# Altium schematic symbol library NSC Audio.SchLib: 306 symbols (part 1 of 8)
Pins are listed as number, name and electrical type; pins without a type are passive.

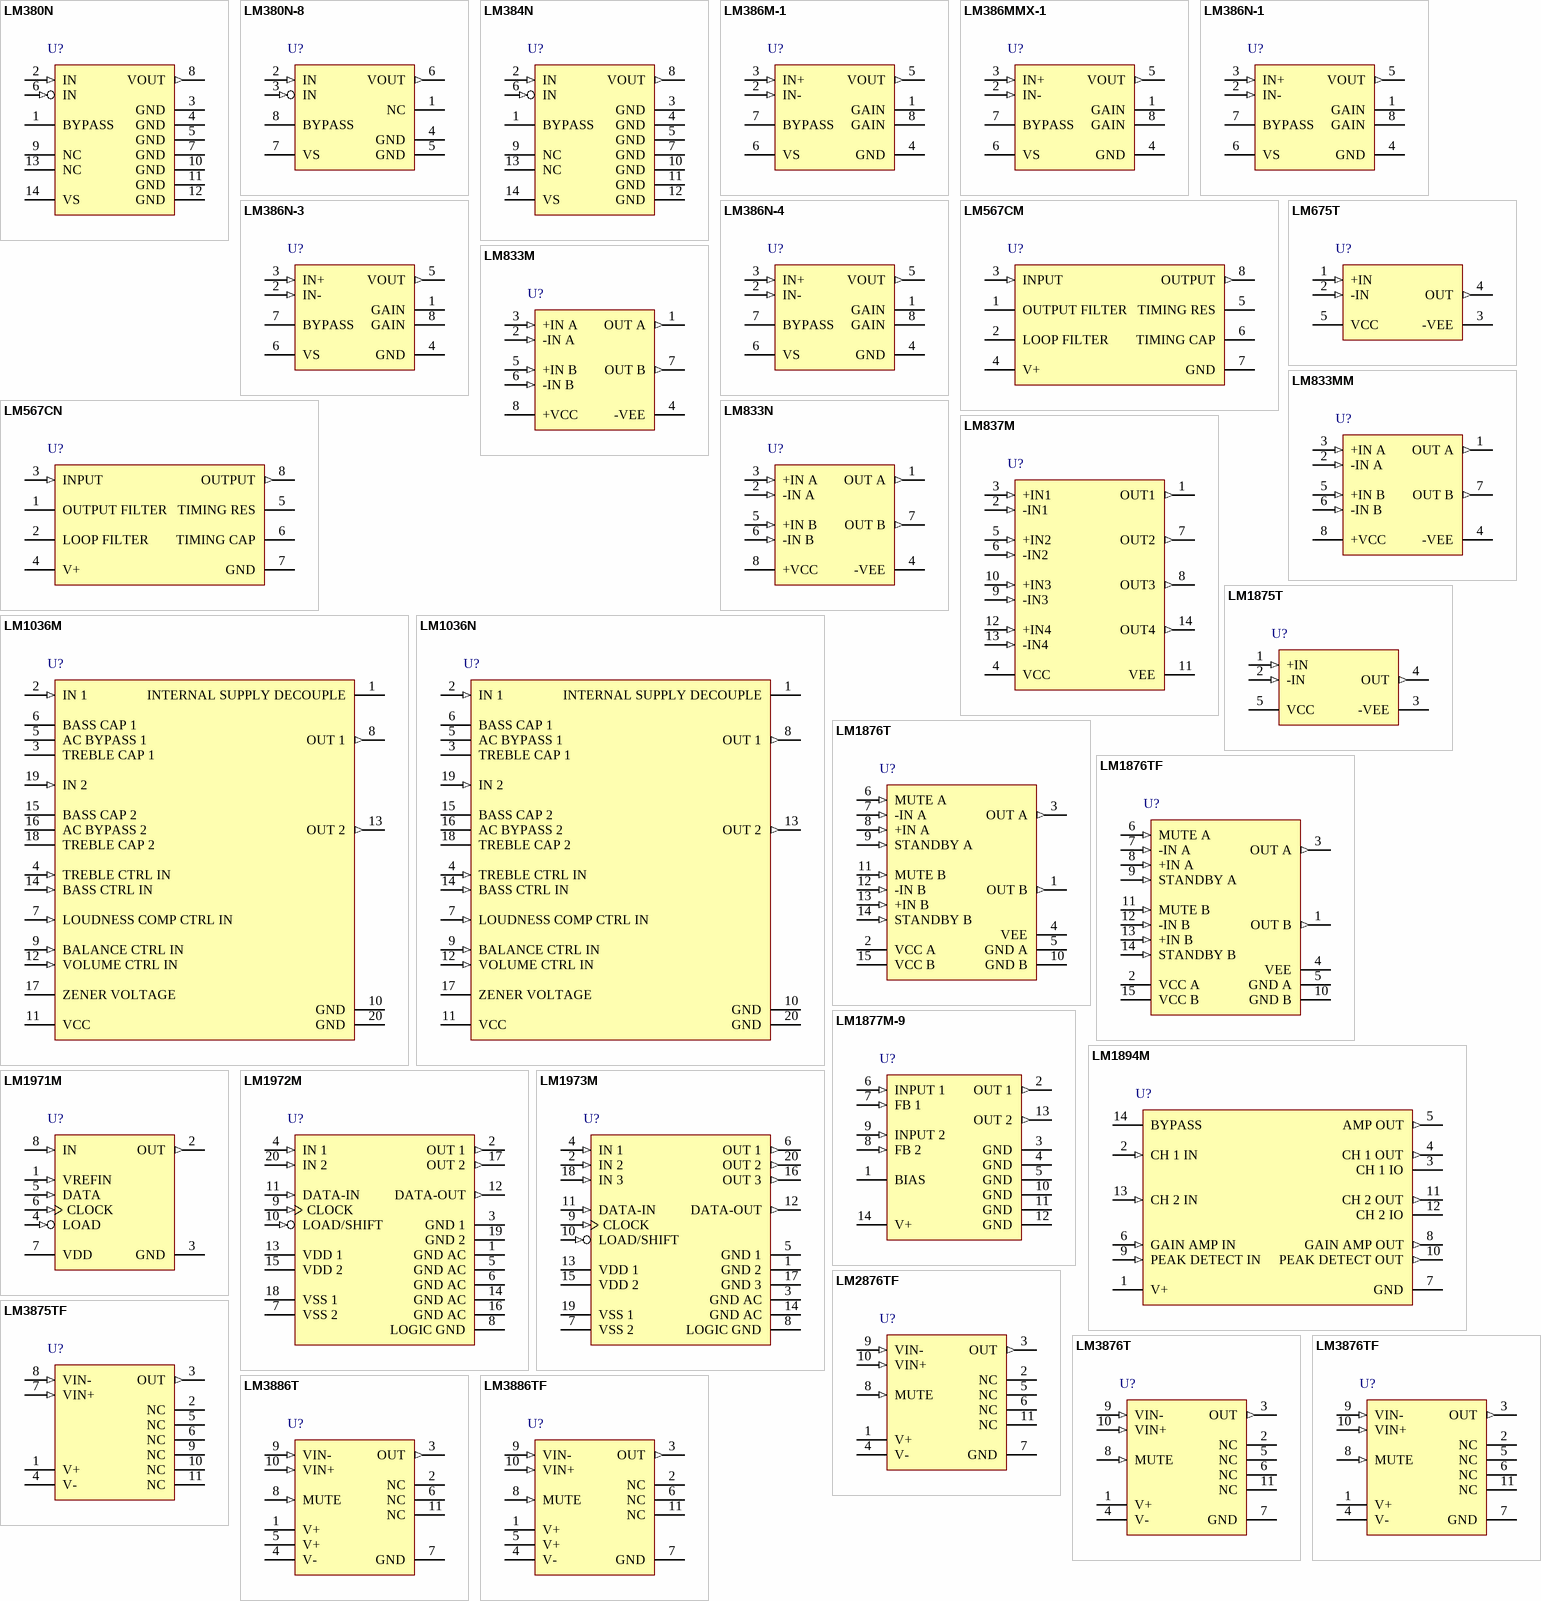
[diagram p0: symbols LM380N to LM3886TF]

## LM380N
designator U?
2.5W Audio Power Amplifier; PartNumber: LM380N; Manufacturer: National Semiconductor; CompType: Audio IC; PackageTopMarking: NSUZXYYTTE#*LM380N; PowerWise: N; Published: 4-Dec-2008; DatasheetVersion: Aug-2000; PackageVersion: revG, May-2006; PackageReference: N14A; Publisher: Altium Limited; PackageDescription: MDIP, .750 x .250 x.130in, 14 Lead, .100in Pitch; RoHS: O; PinCount: 14; DigiKeyPartNumber: LM380N-ND; Code_JEDEC: MS-001-AA; ComponentLink1Description: LM380 Datasheet; ComponentLink1URL: http://www.national.com/ds/LM/LM380.pdf; ComponentLink2Description: LM380 Web Page; ComponentLink2URL: http://www.national.com/pf/LM/LM380.html; ComponentLink3Description: N14A Package Page; ComponentLink3URL: http://www.national.com/packaging/folders/n14a.html
footprint N14A (DIP, 14-Leads, Row Spacing 7.62mm, Pitch 2.54mm, Body 19.56x6.35mm)
pins: 1 BYPASS, 2 IN (in), 3 GND (power), 4 GND (power), 5 GND (power), 6 IN (in), 7 GND (power), 8 VOUT (out), 9 NC, 10 GND (power), 11 GND (power), 12 GND (power), 13 NC, 14 VS (power)

## LM380N-8
designator U?
2.5W Audio Power Amplifier; PartNumber: LM380N-8; Manufacturer: National Semiconductor; CompType: Audio IC; PackageTopMarking: NSUZXYTT*LM*380N-8; PowerWise: N; Published: 4-Dec-2008; DatasheetVersion: Aug-2000; PackageVersion: revG, May-2006; PackageReference: N08E; Publisher: Altium Limited; PackageDescription: MDIP, .365 x .250 x .130in, 8 Lead, .100in Pitch; RoHS: Y; PinCount: 8; DigiKeyPartNumber: LM380N-8-ND; Code_JEDEC: MS-001-BA; ComponentLink1Description: LM380 Datasheet; ComponentLink1URL: http://www.national.com/ds/LM/LM380.pdf; ComponentLink2Description: LM380 Web Page; ComponentLink2URL: http://www.national.com/pf/LM/LM380.html; ComponentLink3Description: N08E Package Page; ComponentLink3URL: http://www.national.com/packaging/folders/n08e.html
footprint N08E (DIP, 8-Leads, Row Spacing 7.62mm, Pitch 2.54mm, Body 9.91x6.35mm)
pins: 1 NC, 2 IN (in), 3 IN (in), 4 GND (power), 5 GND (power), 6 VOUT (out), 7 VS (power), 8 BYPASS

## LM384N
designator U?
5-W Audio Power Amplifier; PartNumber: LM384N; Manufacturer: National Semiconductor; CompType: Audio IC; PackageTopMarking: NSUZXYYTTE#*LM384N; PowerWise: N; Published: 4-Dec-2008; DatasheetVersion: Aug-2000; PackageVersion: revG, May-2006; PackageReference: N14A; Publisher: Altium Limited; PackageDescription: MDIP, .750 x .250 x.130in, 14 Lead, .100in Pitch; RoHS: O; PinCount: 14; DigiKeyPartNumber: LM384N-ND; Code_JEDEC: MS-001-AA; ComponentLink1Description: LM384 Datasheet; ComponentLink1URL: http://www.national.com/ds/LM/LM384.pdf; ComponentLink2Description: LM384 Web Page; ComponentLink2URL: http://www.national.com/pf/LM/LM384.html; ComponentLink3Description: N14A Package Page; ComponentLink3URL: http://www.national.com/packaging/folders/n14a.html
footprint N14A (DIP, 14-Leads, Row Spacing 7.62mm, Pitch 2.54mm, Body 19.56x6.35mm)
pins: 1 BYPASS, 2 IN (in), 3 GND (power), 4 GND (power), 5 GND (power), 6 IN (in), 7 GND (power), 8 VOUT (out), 9 NC, 10 GND (power), 11 GND (power), 12 GND (power), 13 NC, 14 VS (power)

## LM386M-1
designator U?
Low Voltage Audio Power Amplifier; PartNumber: LM386M-1; Manufacturer: National Semiconductor; CompType: Audio IC; PackageTopMarking: NSZXTT*LM386*M-1; PowerWise: N; Published: 4-Dec-2008; DatasheetVersion: Aug-2000; PackageVersion: revL, Sep-2006; PackageReference: M08A; Publisher: Altium Limited; PackageDescription: SOIC Narrow, 4.9 x 3.9 x 1.45mm, 8 Lead, 1.27mm Pitch; RoHS: O; PinCount: 8; DigiKeyPartNumber: LM386M-1-ND; Code_JEDEC: MS-012-AA; Code_IPC: SOIC127P600-8; ComponentLink1Description: LM386 Datasheet; ComponentLink1URL: http://www.national.com/ds/LM/LM386.pdf; ComponentLink2Description: LM386 Web Page; ComponentLink2URL: http://www.national.com/pf/LM/LM386.html; ComponentLink3Description: M08A Package Page; ComponentLink3URL: http://www.national.com/packaging/folders/m08a.html
footprint M08A_N (SOIC, 8-Leads, Body 4.9x3.9mm, Pitch 1.27mm, IPC Medium Density)
footprint M08A_L (SOIC, 8-Leads, Body 4.9x3.9mm, Pitch 1.27mm, IPC High Density)
footprint M08A_M (SOIC, 8-Leads, Body 4.9x3.9mm, Pitch 1.27mm, IPC Low Density)
pins: 1 GAIN, 2 IN- (in), 3 IN+ (in), 4 GND (power), 5 VOUT (out), 6 VS (power), 7 BYPASS, 8 GAIN

## LM386MMX-1
designator U?
Low Voltage Audio Power Amplifier; PartNumber: LM386MMX-1; Manufacturer: National Semiconductor; CompType: Audio IC; PackageTopMarking: ZXTT*Z86; PowerWise: N; Published: 4-Dec-2008; DatasheetVersion: Aug-2000; PackageVersion: revF, Apr-2008; PackageReference: MUA08A; Publisher: Altium Limited; PackageDescription: MINI SOIC, .118 x .118 x .034in, 8 Lead, .0256in Pitch; RoHS: Y; PinCount: 8; DigiKeyPartNumber: LM386MMX-1-ND; Code_JEDEC: MO-187-AA; ComponentLink1Description: LM386 Datasheet; ComponentLink1URL: http://www.national.com/ds/LM/LM386.pdf; ComponentLink2Description: LM386 Web Page; ComponentLink2URL: http://www.national.com/pf/LM/LM386.html; ComponentLink3Description: MUA08A Package Page; ComponentLink3URL: http://www.national.com/packaging/folders/mua08a.html
footprint MUA08A_N (TSOP, 8-Leads, Body 3x3mm, Pitch 0.65mm, IPC Medium Density)
footprint MUA08A_L (TSOP, 8-Leads, Body 3x3mm, Pitch 0.65mm, IPC High Density)
footprint MUA08A_M (TSOP, 8-Leads, Body 3x3mm, Pitch 0.65mm, IPC Low Density)
pins: 1 GAIN, 2 IN- (in), 3 IN+ (in), 4 GND (power), 5 VOUT (out), 6 VS (power), 7 BYPASS, 8 GAIN

## LM386N-1
designator U?
Low Voltage Audio Power Amplifier; PartNumber: LM386N-1; Manufacturer: National Semiconductor; CompType: Audio IC; PackageTopMarking: NSUZXYTT*LM*386N-1; PowerWise: N; Published: 4-Dec-2008; DatasheetVersion: Aug-2000; PackageVersion: revG, May-2006; PackageReference: N08E; Publisher: Altium Limited; PackageDescription: MDIP, .365 x .250 x .130in, 8 Lead, .100in Pitch; RoHS: O; PinCount: 8; DigiKeyPartNumber: LM386N-1-ND; Code_JEDEC: MS-001-BA; ComponentLink1Description: LM386 Datasheet; ComponentLink1URL: http://www.national.com/ds/LM/LM386.pdf; ComponentLink2Description: LM386 Web Page; ComponentLink2URL: http://www.national.com/pf/LM/LM386.html; ComponentLink3Description: N08E Package Page; ComponentLink3URL: http://www.national.com/packaging/folders/n08e.html
footprint N08E (DIP, 8-Leads, Row Spacing 7.62mm, Pitch 2.54mm, Body 9.91x6.35mm)
pins: 1 GAIN, 2 IN- (in), 3 IN+ (in), 4 GND (power), 5 VOUT (out), 6 VS (power), 7 BYPASS, 8 GAIN

## LM386N-3
designator U?
Low Voltage Audio Power Amplifier; PartNumber: LM386N-3; Manufacturer: National Semiconductor; CompType: Audio IC; PackageTopMarking: NSUZXYTT*LM*386N-3; PowerWise: N; Published: 4-Dec-2008; DatasheetVersion: Aug-2000; PackageVersion: revG, May-2006; PackageReference: N08E; Publisher: Altium Limited; PackageDescription: MDIP, .365 x .250 x .130in, 8 Lead, .100in Pitch; RoHS: O; PinCount: 8; DigiKeyPartNumber: LM386N-3-ND; Code_JEDEC: MS-001-BA; ComponentLink1Description: LM386 Datasheet; ComponentLink1URL: http://www.national.com/ds/LM/LM386.pdf; ComponentLink2Description: LM386 Web Page; ComponentLink2URL: http://www.national.com/pf/LM/LM386.html; ComponentLink3Description: N08E Package Page; ComponentLink3URL: http://www.national.com/packaging/folders/n08e.html
footprint N08E (DIP, 8-Leads, Row Spacing 7.62mm, Pitch 2.54mm, Body 9.91x6.35mm)
pins: 1 GAIN, 2 IN- (in), 3 IN+ (in), 4 GND (power), 5 VOUT (out), 6 VS (power), 7 BYPASS, 8 GAIN

## LM386N-4
designator U?
Low Voltage Audio Power Amplifier; PartNumber: LM386N-4; Manufacturer: National Semiconductor; CompType: Audio IC; PackageTopMarking: NSUZXYTT*LM*386N-4; PowerWise: N; Published: 4-Dec-2008; DatasheetVersion: Aug-2000; PackageVersion: revG, May-2006; PackageReference: N08E; Publisher: Altium Limited; PackageDescription: MDIP, .365 x .250 x .130in, 8 Lead, .100in Pitch; RoHS: O; PinCount: 8; DigiKeyPartNumber: LM386N-4-ND; Code_JEDEC: MS-001-BA; ComponentLink1Description: LM386 Datasheet; ComponentLink1URL: http://www.national.com/ds/LM/LM386.pdf; ComponentLink2Description: LM386 Web Page; ComponentLink2URL: http://www.national.com/pf/LM/LM386.html; ComponentLink3Description: N08E Package Page; ComponentLink3URL: http://www.national.com/packaging/folders/n08e.html
footprint N08E (DIP, 8-Leads, Row Spacing 7.62mm, Pitch 2.54mm, Body 9.91x6.35mm)
pins: 1 GAIN, 2 IN- (in), 3 IN+ (in), 4 GND (power), 5 VOUT (out), 6 VS (power), 7 BYPASS, 8 GAIN

## LM567CM
designator U?
Tone Decoder; PartNumber: LM567CM; Manufacturer: National Semiconductor; CompType: Audio IC; PackageTopMarking: NSZXTT*LM*567CM; PowerWise: N; Published: 4-Dec-2008; DatasheetVersion: Feb-2003; PackageVersion: revL, Sep-2006; PackageReference: M08A; Publisher: Altium Limited; PackageDescription: SOIC Narrow, 4.9 x 3.9 x 1.45mm, 8 Lead, 1.27mm Pitch; RoHS: O; PinCount: 8; DigiKeyPartNumber: LM567CM-ND; Code_JEDEC: MS-012-AA; Code_IPC: SOIC127P600-8; ComponentLink1Description: LM567C Datasheet; ComponentLink1URL: http://www.national.com/ds/LM/LM567C.pdf; ComponentLink2Description: LM567C Web Page; ComponentLink2URL: http://www.national.com/pf/LM/LM567C.html; ComponentLink3Description: M08A Package Page; ComponentLink3URL: http://www.national.com/packaging/folders/m08a.html
footprint M08A_N (SOIC, 8-Leads, Body 4.9x3.9mm, Pitch 1.27mm, IPC Medium Density)
footprint M08A_L (SOIC, 8-Leads, Body 4.9x3.9mm, Pitch 1.27mm, IPC High Density)
footprint M08A_M (SOIC, 8-Leads, Body 4.9x3.9mm, Pitch 1.27mm, IPC Low Density)
pins: 1 OUTPUT FILTER, 2 LOOP FILTER, 3 INPUT (in), 4 V+ (power), 5 TIMING RES, 6 TIMING CAP, 7 GND (power), 8 OUTPUT (out)

## LM567CN
designator U?
Tone Decoder; PartNumber: LM567CN; Manufacturer: National Semiconductor; CompType: Audio IC; PackageTopMarking: NSUZXYTT*LM*567CN; PowerWise: N; Published: 4-Dec-2008; DatasheetVersion: Feb-2003; PackageVersion: revG, May-2006; PackageReference: N08E; Publisher: Altium Limited; PackageDescription: MDIP, .365 x .250 x .130in, 8 Lead, .100in Pitch; RoHS: O; PinCount: 8; DigiKeyPartNumber: LM567CN-ND; Code_JEDEC: MS-001-BA; ComponentLink1Description: LM567C Datasheet; ComponentLink1URL: http://www.national.com/ds/LM/LM567C.pdf; ComponentLink2Description: LM567C Web Page; ComponentLink2URL: http://www.national.com/pf/LM/LM567C.html; ComponentLink3Description: N08E Package Page; ComponentLink3URL: http://www.national.com/packaging/folders/n08e.html
footprint N08E (DIP, 8-Leads, Row Spacing 7.62mm, Pitch 2.54mm, Body 9.91x6.35mm)
pins: 1 OUTPUT FILTER, 2 LOOP FILTER, 3 INPUT (in), 4 V+ (power), 5 TIMING RES, 6 TIMING CAP, 7 GND (power), 8 OUTPUT (out)

## LM675T
designator U?
Power Operational Amplifier; PartNumber: LM675T; Manufacturer: National Semiconductor; CompType: Audio IC; PackageTopMarking: NSUZXYTTE#*LM675T; PowerWise: N; Published: 4-Dec-2008; DatasheetVersion: May-1999; PackageVersion: revA, Oct-1989; PackageReference: T05D; Publisher: Altium Limited; PackageDescription: TO-220, Molded, Stagger Bend, 5 Lead; RoHS: O; PinCount: 5; DigiKeyPartNumber: LM675T-ND; ComponentLink1Description: LM675 Datasheet; ComponentLink1URL: http://www.national.com/ds/LM/LM675.pdf; ComponentLink2Description: LM675 Web Page; ComponentLink2URL: http://www.national.com/pf/LM/LM675.html; ComponentLink3Description: T05D Package Page; ComponentLink3URL: http://www.national.com/packaging/folders/t05d.html
footprint T05D (TO, Thru-Hole, Vertical, Heatsink Mounted; 5 Bent Staggered Leads; Pitch 1.7 mm)
pins: 1 +IN (in), 2 -IN (in), 3 -VEE (power), 4 OUT (out), 5 VCC (power)

## LM833M
designator U?
Dual Audio Operational Amplifier; PartNumber: LM833M; Manufacturer: National Semiconductor; CompType: Audio IC; PackageTopMarking: NSZXTT*LM833*M; PowerWise: N; Published: 4-Dec-2008; DatasheetVersion: Jan-2003; PackageVersion: revL, Sep-2006; PackageReference: M08A; Publisher: Altium Limited; PackageDescription: SOIC Narrow, 4.9 x 3.9 x 1.45mm, 8 Lead, 1.27mm Pitch; RoHS: O; PinCount: 8; DigiKeyPartNumber: LM833M-ND; Code_JEDEC: MS-012-AA; Code_IPC: SOIC127P600-8; ComponentLink1Description: LM833 Datasheet; ComponentLink1URL: http://www.national.com/ds/LM/LM833.pdf; ComponentLink2Description: LM833 Web Page; ComponentLink2URL: http://www.national.com/pf/LM/LM833.html; ComponentLink3Description: M08A Package Page; ComponentLink3URL: http://www.national.com/packaging/folders/m08a.html
footprint M08A_N (SOIC, 8-Leads, Body 4.9x3.9mm, Pitch 1.27mm, IPC Medium Density)
footprint M08A_L (SOIC, 8-Leads, Body 4.9x3.9mm, Pitch 1.27mm, IPC High Density)
footprint M08A_M (SOIC, 8-Leads, Body 4.9x3.9mm, Pitch 1.27mm, IPC Low Density)
pins: 1 OUT A (out), 2 -IN A (in), 3 +IN A (in), 4 -VEE (power), 5 +IN B (in), 6 -IN B (in), 7 OUT B (out), 8 +VCC (power)

## LM833MM
designator U?
Dual Audio Operational Amplifier; PartNumber: LM833MM; Manufacturer: National Semiconductor; CompType: Audio IC; PackageTopMarking: ZXTT*Z83; PowerWise: N; Published: 4-Dec-2008; DatasheetVersion: Jan-2003; PackageVersion: revF, Apr-2008; PackageReference: MUA08A; Publisher: Altium Limited; PackageDescription: MINI SOIC, .118 x .118 x .034in, 8 Lead, .0256in Pitch; RoHS: O; PinCount: 8; DigiKeyPartNumber: LM833MMCT-ND; Code_JEDEC: MO-187-AA; ComponentLink1Description: LM833 Datasheet; ComponentLink1URL: http://www.national.com/ds/LM/LM833.pdf; ComponentLink2Description: LM833 Web Page; ComponentLink2URL: http://www.national.com/pf/LM/LM833.html; ComponentLink3Description: MUA08A Package Page; ComponentLink3URL: http://www.national.com/packaging/folders/mua08a.html
footprint MUA08A_N (TSOP, 8-Leads, Body 3x3mm, Pitch 0.65mm, IPC Medium Density)
footprint MUA08A_L (TSOP, 8-Leads, Body 3x3mm, Pitch 0.65mm, IPC High Density)
footprint MUA08A_M (TSOP, 8-Leads, Body 3x3mm, Pitch 0.65mm, IPC Low Density)
pins: 1 OUT A (out), 2 -IN A (in), 3 +IN A (in), 4 -VEE (power), 5 +IN B (in), 6 -IN B (in), 7 OUT B (out), 8 +VCC (power)

## LM833N
designator U?
Dual Audio Operational Amplifier; PartNumber: LM833N; Manufacturer: National Semiconductor; CompType: Audio IC; PackageTopMarking: NSUZXYTT*LM*833N; PowerWise: N; Published: 4-Dec-2008; DatasheetVersion: Jan-2003; PackageVersion: revG, May-2006; PackageReference: N08E; Publisher: Altium Limited; PackageDescription: MDIP, .365 x .250 x .130in, 8 Lead, .100in Pitch; RoHS: O; PinCount: 8; DigiKeyPartNumber: LM833NNS-ND; Code_JEDEC: MS-001-BA; ComponentLink1Description: LM833 Datasheet; ComponentLink1URL: http://www.national.com/ds/LM/LM833.pdf; ComponentLink2Description: LM833 Web Page; ComponentLink2URL: http://www.national.com/pf/LM/LM833.html; ComponentLink3Description: N08E Package Page; ComponentLink3URL: http://www.national.com/packaging/folders/n08e.html
footprint N08E (DIP, 8-Leads, Row Spacing 7.62mm, Pitch 2.54mm, Body 9.91x6.35mm)
pins: 1 OUT A (out), 2 -IN A (in), 3 +IN A (in), 4 -VEE (power), 5 +IN B (in), 6 -IN B (in), 7 OUT B (out), 8 +VCC (power)

## LM837M
designator U?
Low Noise Quad Operational Amplifier; PartNumber: LM837M; Manufacturer: National Semiconductor; CompType: Audio IC; PackageTopMarking: NSUZXYTT*LM837M; PowerWise: Y; Published: 4-Dec-2008; DatasheetVersion: Aug-2000; PackageVersion: revJ, Jan-1996; PackageReference: M14A; Publisher: Altium Limited; PackageDescription: Molded Package S.O., .150in Wide, 14 Lead; RoHS: O; PinCount: 14; DigiKeyPartNumber: LM837M-ND; Code_JEDEC: MS-012AB; Code_IPC: SOIC127P600-14; ComponentLink1Description: LM837 Datasheet; ComponentLink1URL: http://www.national.com/ds/LM/LM837.pdf; ComponentLink2Description: LM837 Web Page; ComponentLink2URL: http://www.national.com/pf/LM/LM837.html; ComponentLink3Description: M14A Package Page; ComponentLink3URL: http://www.national.com/packaging/folders/m14a.html
footprint M14A_N (SOIC, 14-Leads, Body 8.6x3.9mm, Pitch 1.27mm, IPC Medium Density)
footprint M14A_L (SOIC, 14-Leads, Body 8.6x3.9mm, Pitch 1.27mm, IPC High Density)
footprint M14A_M (SOIC, 14-Leads, Body 8.6x3.9mm, Pitch 1.27mm, IPC Low Density)
pins: 1 OUT1 (out), 2 -IN1 (in), 3 +IN1 (in), 4 VCC (power), 5 +IN2 (in), 6 -IN2 (in), 7 OUT2 (out), 8 OUT3 (out), 9 -IN3 (in), 10 +IN3 (in), 11 VEE (power), 12 +IN4 (in), 13 -IN4 (in), 14 OUT4 (out)

## LM1036M
designator U?
Dual DC Operated Tone/Volume/Balance Circuit; PartNumber: LM1036M; Manufacturer: National Semiconductor; CompType: Audio IC; PackageTopMarking: NSUZXYTT*LM1036M; PowerWise: N; Published: 4-Dec-2008; DatasheetVersion: Feb-2008; PackageVersion: revG, Jan-1996; PackageReference: M20B; Publisher: Altium Limited; PackageDescription: Molded Package, S0, .300in Wide, 20 Lead; RoHS: O; PinCount: 20; DigiKeyPartNumber: LM1036M-ND; Code_JEDEC: MS-013-AC; Code_IPC: SOIC127P1030-20; ComponentLink1Description: LM1036 Datasheet; ComponentLink1URL: http://www.national.com/ds/LM/LM1036.pdf; ComponentLink2Description: LM1036 Web Page; ComponentLink2URL: http://www.national.com/pf/LM/LM1036.html; ComponentLink3Description: M20B Package Page; ComponentLink3URL: http://www.national.com/packaging/folders/m20b.html
footprint M20B_N (SOIC, 20-Leads, Body 12.8x7.5mm, Pitch 1.27mm, IPC Medium Density)
footprint M20B_L (SOIC, 20-Leads, Body 12.8x7.5mm, Pitch 1.27mm, IPC High Density)
footprint M20B_M (SOIC, 20-Leads, Body 12.8x7.5mm, Pitch 1.27mm, IPC Low Density)
pins: 1 INTERNAL SUPPLY DECOUPLE, 2 IN 1 (in), 3 TREBLE CAP 1, 4 TREBLE CTRL IN (in), 5 AC BYPASS 1, 6 BASS CAP 1, 7 LOUDNESS COMP CTRL IN (in), 8 OUT 1 (out), 9 BALANCE CTRL IN (in), 10 GND (power), 11 VCC (power), 12 VOLUME CTRL IN (in), 13 OUT 2 (out), 14 BASS CTRL IN (in), 15 BASS CAP 2, 16 AC BYPASS 2, 17 ZENER VOLTAGE, 18 TREBLE CAP 2, 19 IN 2 (in), 20 GND (power)

## LM1036N
designator U?
Dual DC Operated Tone/Volume/Balance Circuit; PartNumber: LM1036N; Manufacturer: National Semiconductor; CompType: Audio IC; PackageTopMarking: NSUZXYYTTE#*LM1036N; PowerWise: N; Published: 4-Dec-2008; DatasheetVersion: Feb-2008; PackageVersion: revG, Nov-1984; PackageReference: N20A; Publisher: Altium Limited; PackageDescription: Molded Dip (N) 20 Lead; RoHS: O; PinCount: 20; DigiKeyPartNumber: LM1036N-ND; Code_JEDEC: MS-001-AD; ComponentLink1Description: LM1036 Datasheet; ComponentLink1URL: http://www.national.com/ds/LM/LM1036.pdf; ComponentLink2Description: LM1036 Web Page; ComponentLink2URL: http://www.national.com/pf/LM/LM1036.html; ComponentLink3Description: N20A Package Page; ComponentLink3URL: http://www.national.com/packaging/folders/n20a.html
footprint N20A (DIP, 20-Leads, Row Spacing 7.62mm, Pitch 2.54mm, Body 26.07x6.6mm)
pins: 1 INTERNAL SUPPLY DECOUPLE, 2 IN 1 (in), 3 TREBLE CAP 1, 4 TREBLE CTRL IN (in), 5 AC BYPASS 1, 6 BASS CAP 1, 7 LOUDNESS COMP CTRL IN (in), 8 OUT 1 (out), 9 BALANCE CTRL IN (in), 10 GND (power), 11 VCC (power), 12 VOLUME CTRL IN (in), 13 OUT 2 (out), 14 BASS CTRL IN (in), 15 BASS CAP 2, 16 AC BYPASS 2, 17 ZENER VOLTAGE, 18 TREBLE CAP 2, 19 IN 2 (in), 20 GND (power)

## LM1875T
designator U?
20-W Audio Power Amplifier; PartNumber: LM1875T; Manufacturer: National Semiconductor; CompType: Audio IC; PackageTopMarking: NSUZXYTTE#*LM1875T; PowerWise: N; Published: 4-Dec-2008; DatasheetVersion: Jul-2002; PackageVersion: revA, Oct-1989; PackageReference: T05D; Publisher: Altium Limited; PackageDescription: TO-220, Molded, Stagger Bend, 5 Lead; RoHS: O; PinCount: 5; DigiKeyPartNumber: LM1875T-ND; ComponentLink1Description: LM1875 Datasheet; ComponentLink1URL: http://www.national.com/ds/LM/LM1875.pdf; ComponentLink2Description: LM1875 Web Page; ComponentLink2URL: http://www.national.com/pf/LM/LM1875.html; ComponentLink3Description: T05D Package Page; ComponentLink3URL: http://www.national.com/packaging/folders/t05d.html
footprint T05D (TO, Thru-Hole, Vertical, Heatsink Mounted; 5 Bent Staggered Leads; Pitch 1.7 mm)
pins: 1 +IN (in), 2 -IN (in), 3 -VEE (power), 4 OUT (out), 5 VCC (power)

## LM1876T
designator U?
Overture Audio Power Amplifier Series Dual 20-Watt Audio Power Amplifier with Mute and Standby Modes; PartNumber: LM1876T; Manufacturer: National Semiconductor; CompType: Audio IC; PackageTopMarking: NSUZXYTTE#*LM1876T; PowerWise: N; Published: 4-Dec-2008; DatasheetVersion: Jul-2003; PackageVersion: revA, Nov-1985; PackageReference: TA15A; Publisher: Altium Limited; PackageDescription: TO-220, Molded, .788 x .421in Body, 15 Lead, .05in Pitch; RoHS: O; PinCount: 15; DigiKeyPartNumber: LM1876T-ND; ComponentLink1Description: LM1876 Datasheet; ComponentLink1URL: http://www.national.com/ds/LM/LM1876.pdf; ComponentLink2Description: LM1876 Web Page; ComponentLink2URL: http://www.national.com/pf/LM/LM1876.html; ComponentLink3Description: TA15A Package Page; ComponentLink3URL: http://www.national.com/packaging/folders/ta15a.html
footprint TA15A (TO, Thru-Hole, Vertical, Heatsink Mounted; 15 Bent Staggered Leads; Pitch 1.27 mm)
pins: 1 OUT B (out), 2 VCC A (power), 3 OUT A (out), 4 VEE (power), 5 GND A (power), 6 MUTE A (in), 7 -IN A (in), 8 +IN A (in), 9 STANDBY A (in), 10 GND B (power), 11 MUTE B (in), 12 -IN B (in), 13 +IN B (in), 14 STANDBY B (in), 15 VCC B (power)

## LM1876TF
designator U?
Overture Audio Power Amplifier Series Dual 20-Watt Audio Power Amplifier with Mute and Standby Modes; PartNumber: LM1876TF; Manufacturer: National Semiconductor; CompType: Audio IC; PackageTopMarking: NSUZXYTTE#*LM1876TF; PowerWise: N; Published: 4-Dec-2008; DatasheetVersion: Jul-2003; PackageVersion: revB, Feb-1994; PackageReference: TF15B; Publisher: Altium Limited; PackageDescription: TO-220, Molded, 15 Lead, Staggered, Isolated; RoHS: O; PinCount: 15; DigiKeyPartNumber: LM1876TF-ND; ComponentLink1Description: LM1876 Datasheet; ComponentLink1URL: http://www.national.com/ds/LM/LM1876.pdf; ComponentLink2Description: LM1876 Web Page; ComponentLink2URL: http://www.national.com/pf/LM/LM1876.html; ComponentLink3Description: TF15B Package Page; ComponentLink3URL: http://www.national.com/packaging/folders/tf15b.html
footprint TF15B (TO, Thru-Hole, Vertical, Heatsink Mounted; 15 Bent Staggered Leads; Pitch 1.27 mm)
pins: 1 OUT B (out), 2 VCC A (power), 3 OUT A (out), 4 VEE (power), 5 GND A (power), 6 MUTE A (in), 7 -IN A (in), 8 +IN A (in), 9 STANDBY A (in), 10 GND B (power), 11 MUTE B (in), 12 -IN B (in), 13 +IN B (in), 14 STANDBY B (in), 15 VCC B (power)

## LM1877M-9
designator U?
Dual Audio Power Amplifier; PartNumber: LM1877M-9; Manufacturer: National Semiconductor; CompType: Audio IC; PackageTopMarking: NSUZXYTT*LM1877M*-9; PowerWise: N; Published: 4-Dec-2008; DatasheetVersion: Feb-1995; PackageVersion: revD, Feb-1987; PackageReference: M14B; Publisher: Altium Limited; PackageDescription: Molded Package, S.O., .300in Wide, 14 Lead; RoHS: O; PinCount: 14; DigiKeyPartNumber: LM1877M-9-ND; Code_JEDEC: MS-013-AF; Code_IPC: SOIC127P1030-14; ComponentLink1Description: LM1877 Datasheet; ComponentLink1URL: http://www.national.com/ds/LM/LM1877.pdf; ComponentLink2Description: LM1877 Web Page; ComponentLink2URL: http://www.national.com/pf/LM/LM1877.html; ComponentLink3Description: M14B Package Page; ComponentLink3URL: http://www.national.com/packaging/folders/m14b.html
footprint M14B_N (SOIC, 14-Leads, Body 9x7.5mm, Pitch 1.27mm, IPC Medium Density)
footprint M14B_L (SOIC, 14-Leads, Body 9x7.5mm, Pitch 1.27mm, IPC High Density)
footprint M14B_M (SOIC, 14-Leads, Body 9x7.5mm, Pitch 1.27mm, IPC Low Density)
pins: 1 BIAS, 2 OUT 1 (out), 3 GND (power), 4 GND (power), 5 GND (power), 6 INPUT 1 (in), 7 FB 1 (in), 8 FB 2 (in), 9 INPUT 2 (in), 10 GND (power), 11 GND (power), 12 GND (power), 13 OUT 2 (out), 14 V+ (power)

## LM1894M
designator U?
Dynamic Noise Reduction System DNR; PartNumber: LM1894M; Manufacturer: National Semiconductor; CompType: Audio IC; PackageTopMarking: NSUZXYTT*LM1894M; Published: 4-Dec-2008; DatasheetVersion: Apr-2002; PackageVersion: revJ, Jan-1996; PackageReference: M14A; Publisher: Altium Limited; PackageDescription: Molded Package S.O., .150in Wide, 14 Lead; RoHS: Y; PinCount: 14; DigiKeyPartNumber: LM1894M-ND; Code_JEDEC: MS-012AB; Code_IPC: SOIC127P600-14; ComponentLink1Description: LM1894 Datasheet; ComponentLink1URL: http://www.national.com/ds/LM/LM1894.pdf; ComponentLink2Description: LM1894 Web Page; ComponentLink2URL: http://www.national.com/pf/LM/LM1894.html; ComponentLink3Description: M14A Package Page; ComponentLink3URL: http://www.national.com/packaging/folders/m14a.html
footprint M14A_N (SOIC, 14-Leads, Body 8.6x3.9mm, Pitch 1.27mm, IPC Medium Density)
footprint M14A_L (SOIC, 14-Leads, Body 8.6x3.9mm, Pitch 1.27mm, IPC High Density)
footprint M14A_M (SOIC, 14-Leads, Body 8.6x3.9mm, Pitch 1.27mm, IPC Low Density)
pins: 1 V+ (power), 2 CH 1 IN (in), 3 CH 1 IO, 4 CH 1 OUT (out), 5 AMP OUT (out), 6 GAIN AMP IN (in), 7 GND (power), 8 GAIN AMP OUT (out), 9 PEAK DETECT IN (in), 10 PEAK DETECT OUT (out), 11 CH 2 OUT (out), 12 CH 2 IO, 13 CH 2 IN (in), 14 BYPASS

## LM1971M
designator U?
Digitally Controlled 62 dB Audio Attenuator with/Mute; PartNumber: LM1971M; Manufacturer: National Semiconductor; CompType: Audio IC; PackageTopMarking: NSZXTT*LM19*71M; PowerWise: N; Published: 4-Dec-2008; DatasheetVersion: Sep-2002; PackageVersion: revL, Sep-2006; PackageReference: M08A; Publisher: Altium Limited; PackageDescription: SOIC Narrow, 4.9 x 3.9 x 1.45mm, 8 Lead, 1.27mm Pitch; RoHS: O; PinCount: 8; DigiKeyPartNumber: LM1971M-ND; Code_JEDEC: MS-012-AA; Code_IPC: SOIC127P600-8; ComponentLink1Description: LM1971 Datasheet; ComponentLink1URL: http://www.national.com/ds/LM/LM1971.pdf; ComponentLink2Description: LM1971 Web Page; ComponentLink2URL: http://www.national.com/pf/LM/LM1971.html; ComponentLink3Description: M08A Package Page; ComponentLink3URL: http://www.national.com/packaging/folders/m08a.html
footprint M08A_N (SOIC, 8-Leads, Body 4.9x3.9mm, Pitch 1.27mm, IPC Medium Density)
footprint M08A_L (SOIC, 8-Leads, Body 4.9x3.9mm, Pitch 1.27mm, IPC High Density)
footprint M08A_M (SOIC, 8-Leads, Body 4.9x3.9mm, Pitch 1.27mm, IPC Low Density)
pins: 1 VREFIN (in), 2 OUT (out), 3 GND (power), 4 LOAD (in), 5 DATA (in), 6 CLOCK (in), 7 VDD (power), 8 IN (in)

## LM1972M
designator U?
Micro-Pot 2-Channel 78 dB Audio Attenuator with Mute; PartNumber: LM1972M; Manufacturer: National Semiconductor; CompType: Audio IC; PackageTopMarking: NSUZXYTT*LM1972M; PowerWise: N; Published: 4-Dec-2008; DatasheetVersion: Nov-2006; PackageVersion: revG, Jan-1996; PackageReference: M20B; Publisher: Altium Limited; PackageDescription: Molded Package, S0, .300in Wide, 20 Lead; RoHS: O; PinCount: 20; DigiKeyPartNumber: LM1972M-ND; Code_JEDEC: MS-013-AC; Code_IPC: SOIC127P1030-20; ComponentLink1Description: LM1972 Datasheet; ComponentLink1URL: http://www.national.com/ds/LM/LM1972.pdf; ComponentLink2Description: LM1972 Web Page; ComponentLink2URL: http://www.national.com/pf/LM/LM1972.html; ComponentLink3Description: M20B Package Page; ComponentLink3URL: http://www.national.com/packaging/folders/m20b.html
footprint M20B_N (SOIC, 20-Leads, Body 12.8x7.5mm, Pitch 1.27mm, IPC Medium Density)
footprint M20B_L (SOIC, 20-Leads, Body 12.8x7.5mm, Pitch 1.27mm, IPC High Density)
footprint M20B_M (SOIC, 20-Leads, Body 12.8x7.5mm, Pitch 1.27mm, IPC Low Density)
pins: 1 GND AC (power), 2 OUT 1 (out), 3 GND 1 (power), 4 IN 1 (in), 5 GND AC (power), 6 GND AC (power), 7 VSS 2 (power), 8 LOGIC GND (power), 9 CLOCK (in), 10 LOAD/SHIFT (in), 11 DATA-IN (in), 12 DATA-OUT (out), 13 VDD 1 (power), 14 GND AC (power), 15 VDD 2 (power), 16 GND AC (power), 17 OUT 2 (out), 18 VSS 1 (power), 19 GND 2 (power), 20 IN 2 (in)

## LM1973M
designator U?
Micro-Pot 3-Channel 76 dB Audio Attenuator with Mute; PartNumber: LM1973M; Manufacturer: National Semiconductor; CompType: Audio IC; PackageTopMarking: NSUZXYTT*LM1973M; PowerWise: N; Published: 4-Dec-2008; DatasheetVersion: Dec-1994; PackageVersion: revG, Jan-1996; PackageReference: M20B; Publisher: Altium Limited; PackageDescription: Molded Package, S0, .300in Wide, 20 Lead; RoHS: Y; PinCount: 20; DigiKeyPartNumber: LM1973M-ND; Code_JEDEC: MS-013-AC; Code_IPC: SOIC127P1030-20; ComponentLink1Description: LM1973 Datasheet; ComponentLink1URL: http://www.national.com/ds/LM/LM1973.pdf; ComponentLink2Description: LM1973 Web Page; ComponentLink2URL: http://www.national.com/pf/LM/LM1973.html; ComponentLink3Description: M20B Package Page; ComponentLink3URL: http://www.national.com/packaging/folders/m20b.html
footprint M20B_N (SOIC, 20-Leads, Body 12.8x7.5mm, Pitch 1.27mm, IPC Medium Density)
footprint M20B_L (SOIC, 20-Leads, Body 12.8x7.5mm, Pitch 1.27mm, IPC High Density)
footprint M20B_M (SOIC, 20-Leads, Body 12.8x7.5mm, Pitch 1.27mm, IPC Low Density)
pins: 1 GND 2 (power), 2 IN 2 (in), 3 GND AC (power), 4 IN 1 (in), 5 GND 1 (power), 6 OUT 1 (out), 7 VSS 2 (power), 8 LOGIC GND (power), 9 CLOCK (in), 10 LOAD/SHIFT (in), 11 DATA-IN (in), 12 DATA-OUT (out), 13 VDD 1 (power), 14 GND AC (power), 15 VDD 2 (power), 16 OUT 3 (out), 17 GND 3 (power), 18 IN 3 (in), 19 VSS 1 (power), 20 OUT 2 (out)

## LM2876TF
designator U?
High-Performance 40 Watt Audio Power Amplifier w/Mute; PartNumber: LM2876TF; Manufacturer: National Semiconductor; CompType: Audio IC; PackageTopMarking: NSUZXYTTE#*LM2876TF; PowerWise: N; Published: 4-Dec-2008; DatasheetVersion: Aug-2000; PackageVersion: revD, Apr-2003; PackageReference: TF11B; Publisher: Altium Limited; PackageDescription: TO-220, Molded, 15 Lead, Staggered, Isolated; RoHS: Y; PinCount: 11; DigiKeyPartNumber: LM2876TF-ND; ComponentLink1Description: LM2876 Datasheet; ComponentLink1URL: http://www.national.com/ds/LM/LM2876.pdf; ComponentLink2Description: LM2876 Web Page; ComponentLink2URL: http://www.national.com/pf/LM/LM2876.html; ComponentLink3Description: TF11B Package Page; ComponentLink3URL: http://www.national.com/packaging/folders/tf11b.html
footprint TF11B (TO, Thru-Hole, Vertical, Heatsink Mounted; 11 Bent Staggered Leads; Pitch 1.7 mm)
pins: 1 V+ (power), 2 NC, 3 OUT (out), 4 V- (power), 5 NC "NC. Connect to V+ for compatibillity with LM3886", 6 NC, 7 GND (power), 8 MUTE (in), 9 VIN- (in), 10 VIN+ (in), 11 NC

## LM3875TF
designator U?
High-Performance 56W Audio Power Amplifier; PartNumber: LM3875TF; Manufacturer: National Semiconductor; CompType: Audio IC; PackageTopMarking: NSUZXYTTE#*LM3875TF; PowerWise: N; Published: 4-Dec-2008; DatasheetVersion: Aug-2000; PackageVersion: revD, Apr-2003; PackageReference: TF11B; Publisher: Altium Limited; PackageDescription: TO-220, Molded, 15 Lead, Staggered, Isolated; RoHS: Y; PinCount: 11; DigiKeyPartNumber: LM3875TF-ND; ComponentLink1Description: LM3875 Datasheet; ComponentLink1URL: http://www.national.com/ds/LM/LM3875.pdf; ComponentLink2Description: LM3875 Web Page; ComponentLink2URL: http://www.national.com/pf/LM/LM3875.html; ComponentLink3Description: TF11B Package Page; ComponentLink3URL: http://www.national.com/packaging/folders/tf11b.html
footprint TF11B (TO, Thru-Hole, Vertical, Heatsink Mounted; 11 Bent Staggered Leads; Pitch 1.7 mm)
pins: 1 V+ (power), 2 NC, 3 OUT (out), 4 V- (power), 5 NC, 6 NC, 7 VIN+ (in), 8 VIN- (in), 9 NC, 10 NC, 11 NC

## LM3876T
designator U?
High-Performance 56W Audio Power Amplifier with Mute; PartNumber: LM3876T; Manufacturer: National Semiconductor; CompType: Audio IC; PackageTopMarking: NSUZXYTTE#*LM3876T; PowerWise: N; Published: 4-Dec-2008; DatasheetVersion: Aug-2000; PackageVersion: revA, Mar-1987; PackageReference: TA11B; Publisher: Altium Limited; PackageDescription: TO-220, Molded, .788 x .421in Body, 11 Lead, .067in Pitch; RoHS: O; PinCount: 11; DigiKeyPartNumber: LM3876T-ND; ComponentLink1Description: LM3876 Datasheet; ComponentLink1URL: http://www.national.com/ds/LM/LM3876.pdf; ComponentLink2Description: LM3876 Web Page; ComponentLink2URL: http://www.national.com/pf/LM/LM3876.html; ComponentLink3Description: TA11B Package Page; ComponentLink3URL: http://www.national.com/packaging/folders/ta11b.html
footprint TA11B (TO, Thru-Hole, Vertical, Heatsink Mounted; 11 Bent Staggered Leads; Pitch 1.7 mm)
pins: 1 V+ (power), 2 NC, 3 OUT (out), 4 V- (power), 5 NC, 6 NC, 7 GND (power), 8 MUTE (in), 9 VIN- (in), 10 VIN+ (in), 11 NC

## LM3876TF
designator U?
High-Performance 56W Audio Power Amplifier with Mute; PartNumber: LM3876TF; Manufacturer: National Semiconductor; CompType: Audio IC; PackageTopMarking: NSUZXYTTE#*LM3876TF; PowerWise: N; Published: 4-Dec-2008; DatasheetVersion: Aug-2000; PackageVersion: revD, Apr-2003; PackageReference: TF11B; Publisher: Altium Limited; PackageDescription: TO-220, Molded, 15 Lead, Staggered, Isolated; RoHS: Y; PinCount: 11; DigiKeyPartNumber: LM3876TF-ND; ComponentLink1Description: LM3876 Datasheet; ComponentLink1URL: http://www.national.com/ds/LM/LM3876.pdf; ComponentLink2Description: LM3876 Web Page; ComponentLink2URL: http://www.national.com/pf/LM/LM3876.html; ComponentLink3Description: TF11B Package Page; ComponentLink3URL: http://www.national.com/packaging/folders/tf11b.html
footprint TF11B (TO, Thru-Hole, Vertical, Heatsink Mounted; 11 Bent Staggered Leads; Pitch 1.7 mm)
pins: 1 V+ (power), 2 NC, 3 OUT (out), 4 V- (power), 5 NC, 6 NC, 7 GND (power), 8 MUTE (in), 9 VIN- (in), 10 VIN+ (in), 11 NC

## LM3886T
designator U?
High-Performance 68W Audio Power Amplifier with Mute; PartNumber: LM3886T; Manufacturer: National Semiconductor; CompType: Audio IC; PackageTopMarking: NSUZXYTTE#*LM3886T; PowerWise: N; Published: 4-Dec-2008; DatasheetVersion: Oct-2003; PackageVersion: revA, Mar-1987; PackageReference: TA11B; Publisher: Altium Limited; PackageDescription: TO-220, Molded, .788 x .421in Body, 11 Lead, .067in Pitch; RoHS: O; PinCount: 11; DigiKeyPartNumber: LM3886T-ND; ComponentLink1Description: LM3886 Datasheet; ComponentLink1URL: http://www.national.com/ds/LM/LM3886.pdf; ComponentLink2Description: LM3886 Web Page; ComponentLink2URL: http://www.national.com/pf/LM/LM3886.html; ComponentLink3Description: TA11B Package Page; ComponentLink3URL: http://www.national.com/packaging/folders/ta11b.html
footprint TA11B (TO, Thru-Hole, Vertical, Heatsink Mounted; 11 Bent Staggered Leads; Pitch 1.7 mm)
pins: 1 V+ (power), 2 NC, 3 OUT (out), 4 V- (power), 5 V+ (power), 6 NC, 7 GND (power), 8 MUTE (in), 9 VIN- (in), 10 VIN+ (in), 11 NC

## LM3886TF
designator U?
High-Performance 68W Audio Power Amplifier with Mute; PartNumber: LM3886TF; Manufacturer: National Semiconductor; CompType: Audio IC; PackageTopMarking: NSUZXYTTE#*LM3886TF; PowerWise: N; Published: 4-Dec-2008; DatasheetVersion: Oct-2003; PackageVersion: revD, Apr-2003; PackageReference: TF11B; Publisher: Altium Limited; PackageDescription: TO-220, Molded, 15 Lead, Staggered, Isolated; RoHS: O; PinCount: 11; DigiKeyPartNumber: LM3886TF-ND; ComponentLink1Description: LM3886 Datasheet; ComponentLink1URL: http://www.national.com/ds/LM/LM3886.pdf; ComponentLink2Description: LM3886 Web Page; ComponentLink2URL: http://www.national.com/pf/LM/LM3886.html; ComponentLink3Description: TF11B Package Page; ComponentLink3URL: http://www.national.com/packaging/folders/tf11b.html
footprint TF11B (TO, Thru-Hole, Vertical, Heatsink Mounted; 11 Bent Staggered Leads; Pitch 1.7 mm)
pins: 1 V+ (power), 2 NC, 3 OUT (out), 4 V- (power), 5 V+ (power), 6 NC, 7 GND (power), 8 MUTE (in), 9 VIN- (in), 10 VIN+ (in), 11 NC

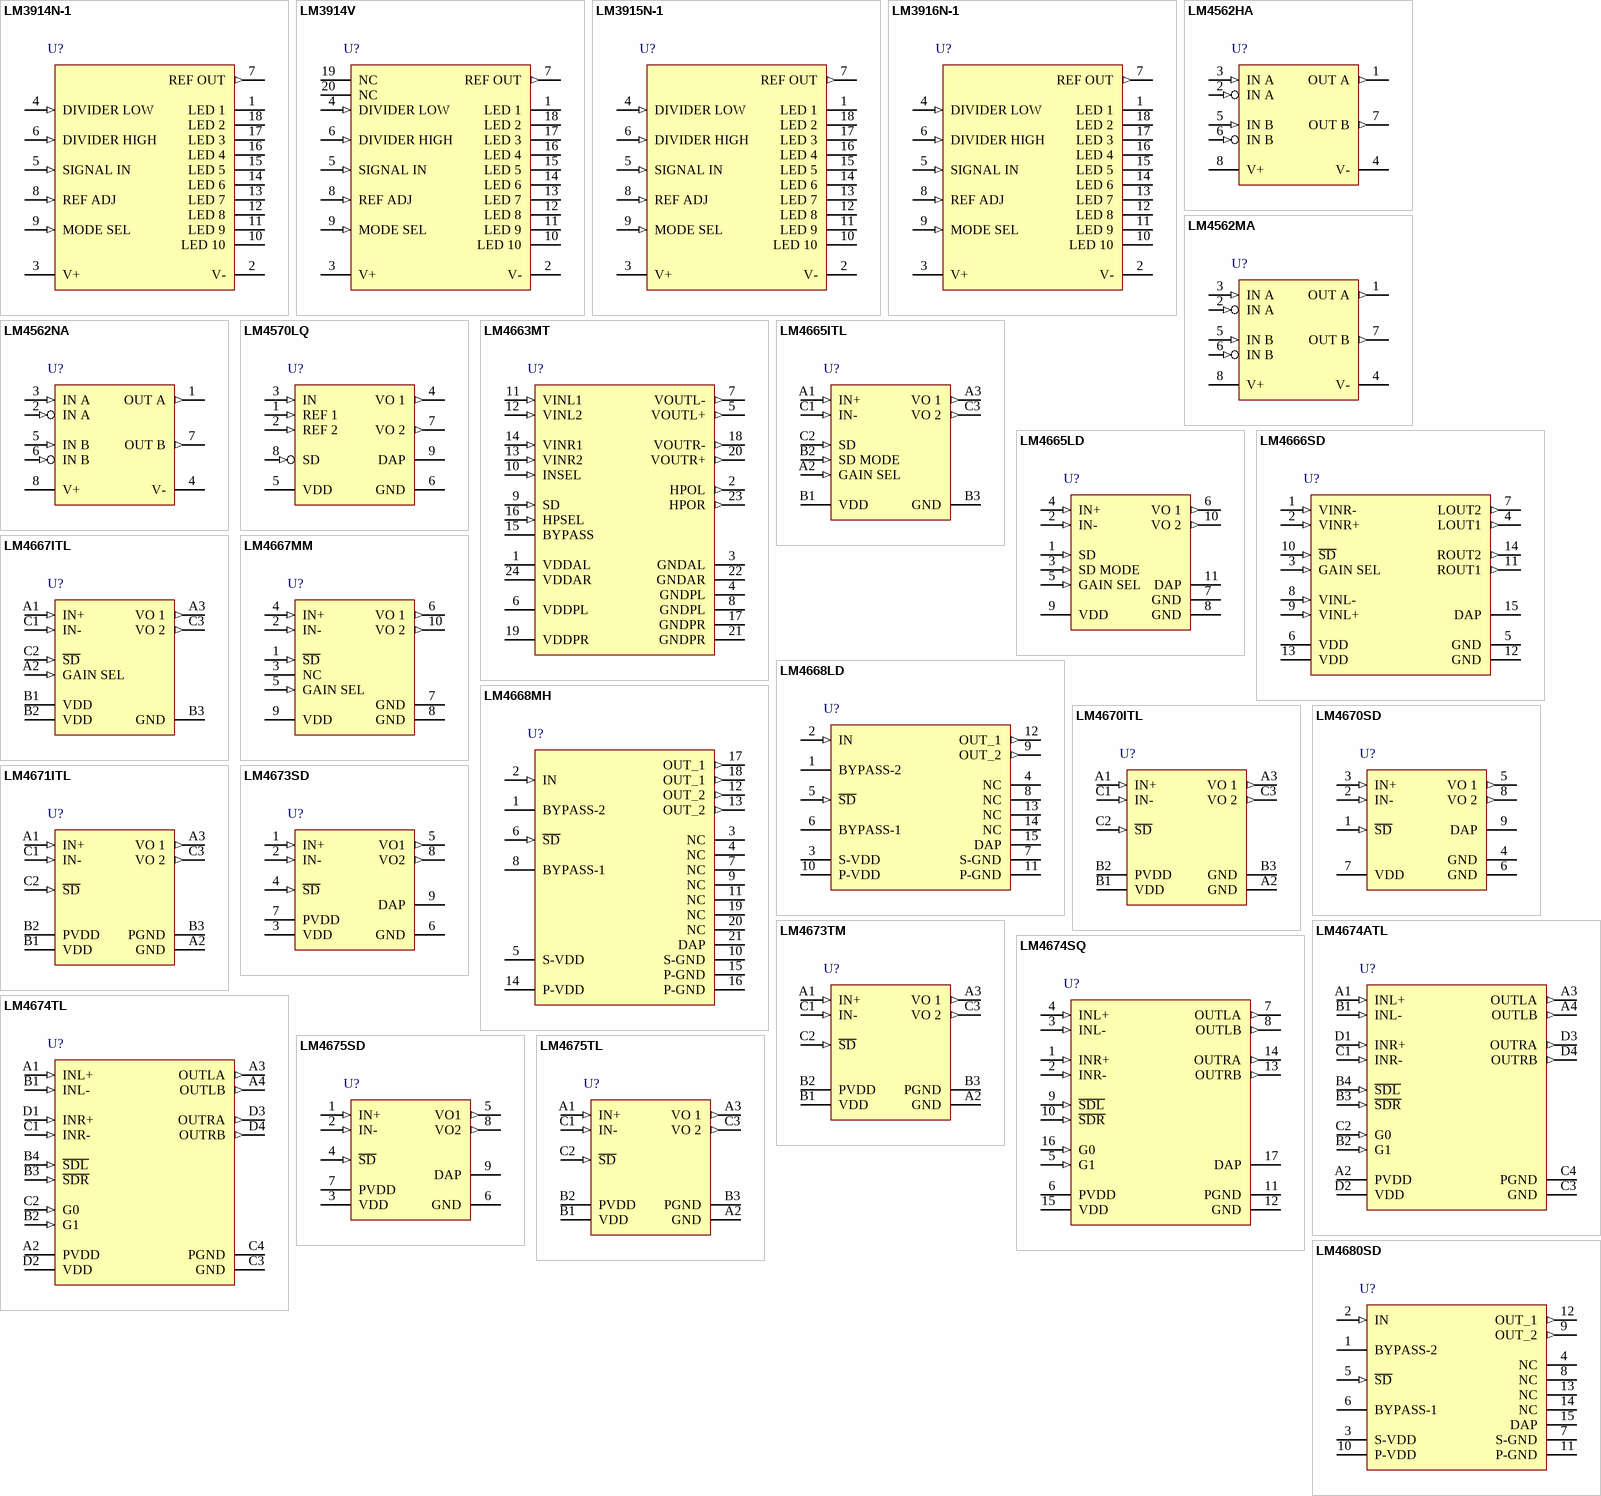
[diagram p1: symbols LM3914N-1 to LM4680SD]

## LM3914N-1
designator U?
Dot/Bar Display Driver; PartNumber: LM3914N-1; Manufacturer: National Semiconductor; CompType: Audio IC; PackageTopMarking: NSUZXYYTT*LM3914N-1; PowerWise: N; Published: 4-Dec-2008; DatasheetVersion: Feb-2003; PackageVersion: revB, May-2006; PackageReference: NA18A; Publisher: Altium Limited; PackageDescription: MDIP, .900 x .250 x .155in, 18 Lead, .100in Pitch; RoHS: O; PinCount: 18; DigiKeyPartNumber: LM3914N-1-ND; Code_JEDEC: MS-001-AC; ComponentLink1Description: LM3914 Datasheet; ComponentLink1URL: http://www.national.com/ds/LM/LM3914.pdf; ComponentLink2Description: LM3914 Web Page; ComponentLink2URL: http://www.national.com/pf/LM/LM3914.html; ComponentLink3Description: NA18A Package Page; ComponentLink3URL: http://www.national.com/packaging/folders/na18a.html
footprint NA18A (DIP, 18-Leads, Row Spacing 7.62mm, Pitch 2.54mm, Body 22.86x6.35mm)
pins: 1 LED 1 (oc), 2 V- (power), 3 V+ (power), 4 DIVIDER LOW (in), 5 SIGNAL IN (in), 6 DIVIDER HIGH (in), 7 REF OUT (out), 8 REF ADJ (in), 9 MODE SEL (in), 10 LED 10 (oc), 11 LED 9 (oc), 12 LED 8 (oc), 13 LED 7 (oc), 14 LED 6 (oc), 15 LED 5 (oc), 16 LED 4 (oc), 17 LED 3 (oc), 18 LED 2 (oc)

## LM3914V
designator U?
Dot/Bar Display Driver; PartNumber: LM3914V; Manufacturer: National Semiconductor; CompType: Audio IC; PackageTopMarking: NSUZXYTT*LM3914V; PowerWise: N; Published: 4-Dec-2008; DatasheetVersion: Feb-2003; PackageVersion: revL, Dec-1993; PackageReference: V20A; Publisher: Altium Limited; PackageDescription: Plastic Chip Carrier, Sq., .050in Pitch, 20 Lead; RoHS: O; PinCount: 20; DigiKeyPartNumber: LM3914V-ND; Code_JEDEC: MO-047-AA; Code_IPC: PLCC-20; ComponentLink1Description: LM3914 Datasheet; ComponentLink1URL: http://www.national.com/ds/LM/LM3914.pdf; ComponentLink2Description: LM3914 Web Page; ComponentLink2URL: http://www.national.com/pf/LM/LM3914.html; ComponentLink3Description: V20A Package Page; ComponentLink3URL: http://www.national.com/packaging/folders/v20a.html
footprint V20A_N (Leaded Chip Carrier, 20-Leads, Body 9x9mm, Pitch 1.27mm, IPC Medium Density)
footprint V20A_L (Leaded Chip Carrier, 20-Leads, Body 9x9mm, Pitch 1.27mm, IPC High Density)
footprint V20A_M (Leaded Chip Carrier, 20-Leads, Body 9x9mm, Pitch 1.27mm, IPC Low Density)
pins: 1 LED 1 (oc), 2 V- (power), 3 V+ (power), 4 DIVIDER LOW (in), 5 SIGNAL IN (in), 6 DIVIDER HIGH (in), 7 REF OUT (out), 8 REF ADJ (in), 9 MODE SEL (in), 10 LED 10 (oc), 11 LED 9 (oc), 12 LED 8 (oc), 13 LED 7 (oc), 14 LED 6 (oc), 15 LED 5 (oc), 16 LED 4 (oc), 17 LED 3 (oc), 18 LED 2 (oc), 19 NC, 20 NC

## LM3915N-1
designator U?
Dot/Bar Display Driver; PartNumber: LM3915N-1; Manufacturer: National Semiconductor; CompType: Audio IC; PackageTopMarking: NSUZXYYTT*LM3915N-1; PowerWise: N; Published: 4-Dec-2008; DatasheetVersion: Feb-2001; PackageVersion: revB, May-2006; PackageReference: NA18A; Publisher: Altium Limited; PackageDescription: MDIP, .900 x .250 x .155in, 18 Lead, .100in Pitch; RoHS: Y; PinCount: 18; DigiKeyPartNumber: LM3915N-1-ND; Code_JEDEC: MS-001-AC; ComponentLink1Description: LM3915 Datasheet; ComponentLink1URL: http://www.national.com/ds/LM/LM3915.pdf; ComponentLink2Description: LM3915 Web Page; ComponentLink2URL: http://www.national.com/pf/LM/LM3915.html; ComponentLink3Description: NA18A Package Page; ComponentLink3URL: http://www.national.com/packaging/folders/na18a.html
footprint NA18A (DIP, 18-Leads, Row Spacing 7.62mm, Pitch 2.54mm, Body 22.86x6.35mm)
pins: 1 LED 1 (oc), 2 V- (power), 3 V+ (power), 4 DIVIDER LOW (in), 5 SIGNAL IN (in), 6 DIVIDER HIGH (in), 7 REF OUT (out), 8 REF ADJ (in), 9 MODE SEL (in), 10 LED 10 (oc), 11 LED 9 (oc), 12 LED 8 (oc), 13 LED 7 (oc), 14 LED 6 (oc), 15 LED 5 (oc), 16 LED 4 (oc), 17 LED 3 (oc), 18 LED 2 (oc)

## LM3916N-1
designator U?
Dot/Bar Display Driver; PartNumber: LM3916N-1; Manufacturer: National Semiconductor; CompType: Audio IC; PackageTopMarking: NSUZXYYTT*LM3916N-1; PowerWise: N; Published: 4-Dec-2008; DatasheetVersion: Jan-2000; PackageVersion: revB, May-2006; PackageReference: NA18A; Publisher: Altium Limited; PackageDescription: MDIP, .900 x .250 x .155in, 18 Lead, .100in Pitch; RoHS: O; PinCount: 18; DigiKeyPartNumber: LM3916N-1-ND; Code_JEDEC: MS-001-AC; ComponentLink1Description: LM3916 Datasheet; ComponentLink1URL: http://www.national.com/ds/LM/LM3916.pdf; ComponentLink2Description: LM3916 Web Page; ComponentLink2URL: http://www.national.com/pf/LM/LM3916.html; ComponentLink3Description: NA18A Package Page; ComponentLink3URL: http://www.national.com/packaging/folders/na18a.html
footprint NA18A (DIP, 18-Leads, Row Spacing 7.62mm, Pitch 2.54mm, Body 22.86x6.35mm)
pins: 1 LED 1 (oc), 2 V- (power), 3 V+ (power), 4 DIVIDER LOW (in), 5 SIGNAL IN (in), 6 DIVIDER HIGH (in), 7 REF OUT (out), 8 REF ADJ (in), 9 MODE SEL (in), 10 LED 10 (oc), 11 LED 9 (oc), 12 LED 8 (oc), 13 LED 7 (oc), 14 LED 6 (oc), 15 LED 5 (oc), 16 LED 4 (oc), 17 LED 3 (oc), 18 LED 2 (oc)

## LM4562HA
designator U?
Dual High Performance, High Fidelity Audio Operational Amplifier; PartNumber: LM4562HA; Manufacturer: National Semiconductor; CompType: Audio IC; PackageTopMarking: NSZXYTTE# LM4562HA; PowerWise: Y; Published: 4-Dec-2008; DatasheetVersion: Oct-2007; PackageVersion: revF, Jun-1995; PackageReference: H08C; Publisher: Altium Limited; PackageDescription: Metal Can, TO-99, 8 Lead, .200 Dia., P.C.; RoHS: Y; PinCount: 8; DigiKeyPartNumber: LM4562HA-ND; Code_JEDEC: TO-99; ComponentLink1Description: LM4562 Datasheet; ComponentLink1URL: http://www.national.com/ds/LM/LM4562.pdf; ComponentLink2Description: LM4562 Web Page; ComponentLink2URL: http://www.national.com/pf/LM/LM4562.html; ComponentLink3Description: H08C Package Page; ComponentLink3URL: http://www.national.com/packaging/folders/h08c.html
footprint H08C (Can; 8 Leads; Pin Circle Dia. 5.08 mm; Lead Dia. 0.48 mm (max))
pins: 1 OUT A (out), 2 IN A (in), 3 IN A (in), 4 V- (power), 5 IN B (in), 6 IN B (in), 7 OUT B (out), 8 V+ (power)

## LM4562MA
designator U?
Dual High Performance, High Fidelity Audio Operational Amplifier; PartNumber: LM4562MA; Manufacturer: National Semiconductor; CompType: Audio IC; PackageTopMarking: NSZXTT*L4562*MA; PowerWise: Y; Published: 4-Dec-2008; DatasheetVersion: Oct-2007; PackageVersion: revL, Sep-2006; PackageReference: M08A; Publisher: Altium Limited; PackageDescription: SOIC Narrow, 4.9 x 3.9 x 1.45mm, 8 Lead, 1.27mm Pitch; RoHS: Y; PinCount: 8; DigiKeyPartNumber: LM4562MA-ND; Code_JEDEC: MS-012-AA; Code_IPC: SOIC127P600-8; ComponentLink1Description: LM4562 Datasheet; ComponentLink1URL: http://www.national.com/ds/LM/LM4562.pdf; ComponentLink2Description: LM4562 Web Page; ComponentLink2URL: http://www.national.com/pf/LM/LM4562.html; ComponentLink3Description: M08A Package Page; ComponentLink3URL: http://www.national.com/packaging/folders/m08a.html
footprint M08A_N (SOIC, 8-Leads, Body 4.9x3.9mm, Pitch 1.27mm, IPC Medium Density)
footprint M08A_L (SOIC, 8-Leads, Body 4.9x3.9mm, Pitch 1.27mm, IPC High Density)
footprint M08A_M (SOIC, 8-Leads, Body 4.9x3.9mm, Pitch 1.27mm, IPC Low Density)
pins: 1 OUT A (out), 2 IN A (in), 3 IN A (in), 4 V- (power), 5 IN B (in), 6 IN B (in), 7 OUT B (out), 8 V+ (power)

## LM4562NA
designator U?
Dual High Performance, High Fidelity Audio Operational Amplifier; PartNumber: LM4562NA; Manufacturer: National Semiconductor; CompType: Audio IC; PackageTopMarking: NSUZXYTT*LM*4562NA; PowerWise: Y; Published: 4-Dec-2008; DatasheetVersion: Oct-2007; PackageVersion: revG, May-2006; PackageReference: N08E; Publisher: Altium Limited; PackageDescription: MDIP, .365 x .250 x .130in, 8 Lead, .100in Pitch; RoHS: Y; PinCount: 8; DigiKeyPartNumber: LM4562NA-ND; Code_JEDEC: MS-001-BA; ComponentLink1Description: LM4562 Datasheet; ComponentLink1URL: http://www.national.com/ds/LM/LM4562.pdf; ComponentLink2Description: LM4562 Web Page; ComponentLink2URL: http://www.national.com/pf/LM/LM4562.html; ComponentLink3Description: N08E Package Page; ComponentLink3URL: http://www.national.com/packaging/folders/n08e.html
footprint N08E (DIP, 8-Leads, Row Spacing 7.62mm, Pitch 2.54mm, Body 9.91x6.35mm)
pins: 1 OUT A (out), 2 IN A (in), 3 IN A (in), 4 V- (power), 5 IN B (in), 6 IN B (in), 7 OUT B (out), 8 V+ (power)

## LM4570LQ
designator U?
Single-Ended Input Motor Driver; PartNumber: LM4570LQ; Manufacturer: National Semiconductor; CompType: Audio IC; PackageTopMarking: XTT*GC8; PowerWise: N; Published: 4-Dec-2008; DatasheetVersion: Jul-2006; PackageVersion: revB, Nov-2002; PackageReference: LQB08A; Publisher: Altium Limited; PackageDescription: LLP, Plastic, Quad, 2 x 2 x 0.75mm Body, 8 Lead, 0.65mm Pitch; RoHS: Y; PinCount: 8; DigiKeyPartNumber: LM4570LQCT-ND; ComponentLink1Description: LM4570 Datasheet; ComponentLink1URL: http://www.national.com/ds/LM/LM4570.pdf; ComponentLink2Description: LM4570 Web Page; ComponentLink2URL: http://www.national.com/pf/LM/LM4570.html; ComponentLink3Description: LQB08A Package Page; ComponentLink3URL: http://www.national.com/packaging/folders/lqb08a.html
footprint LQB08A (PQFN, 8-Leads, Body 2x2mm, Pitch 0.65mm, NSC Recommended)
pins: 1 REF 1 (in), 2 REF 2 (in), 3 IN (in), 4 VO 1 (out), 5 VDD (power), 6 GND (power), 7 VO 2 (out), 8 SD (in), 9 DAP (power)

## LM4663MT
designator U?
2.5 W Stereo Class D Audio Power Amplifier; PartNumber: LM4663MT; Manufacturer: National Semiconductor; CompType: Audio IC; PackageTopMarking: NSUZXYTT*LM4663MT; Published: 4-Dec-2008; DatasheetVersion: Apr-2006; PackageVersion: revE, Mar-2003; PackageReference: MTC24; Publisher: Altium Limited; PackageDescription: Molded TSSOP, Jedec, 7.8 x 4.4 x 0.9mm Body, 24 Lead, 0.65mm Pitch; RoHS: Y; PinCount: 24; DigiKeyPartNumber: LM4663MT-ND; Code_JEDEC: MO-153-AD; ComponentLink1Description: LM4663 Datasheet; ComponentLink1URL: http://www.national.com/ds/LM/LM4663.pdf; ComponentLink2Description: LM4663 Web Page; ComponentLink2URL: http://www.national.com/pf/LM/LM4663.html; ComponentLink3Description: MTC24 Package Page; ComponentLink3URL: http://www.national.com/packaging/folders/mtc24.html
footprint MTC24_N (TSOP, 24-Leads, Body 7.8x4.4mm, Pitch 0.65mm, IPC Medium Density)
footprint MTC24_L (TSOP, 24-Leads, Body 7.8x4.4mm, Pitch 0.65mm, IPC High Density)
footprint MTC24_M (TSOP, 24-Leads, Body 7.8x4.4mm, Pitch 0.65mm, IPC Low Density)
pins: 1 VDDAL (power), 2 HPOL (out), 3 GNDAL (power), 4 GNDPL (power), 5 VOUTL+ (out), 6 VDDPL (power), 7 VOUTL- (out), 8 GNDPL (power), 9 SD (in), 10 INSEL (in), 11 VINL1 (in), 12 VINL2 (in), 13 VINR2 (in), 14 VINR1 (in), 15 BYPASS, 16 HPSEL (in), 17 GNDPR (power), 18 VOUTR- (out), 19 VDDPR (power), 20 VOUTR+ (out), 21 GNDPR (power), 22 GNDAR (power), 23 HPOR (out), 24 VDDAR (power)

## LM4665ITL
designator U?
Filterless High Efficiency 1W Switching Audio Amplifier; PartNumber: LM4665ITL; Manufacturer: National Semiconductor; CompType: Audio IC; PackageTopMarking: XVG*I A2; PowerWise: N; Published: 4-Dec-2008; DatasheetVersion: Dec-2002; PackageVersion: revC, Jan-2004; PackageReference: TLA09AAA; Publisher: Altium Limited; PackageDescription: Thin Micro SMD, 9 Bump (Large), 0.5mm Pitch; RoHS: Y; PinCount: 9; DigiKeyPartNumber: LM4665ITLCT-ND; Code_JEDEC: MO-211-DD; ComponentLink1Description: LM4665 Datasheet; ComponentLink1URL: http://www.national.com/ds/LM/LM4665.pdf; ComponentLink2Description: LM4665 Web Page; ComponentLink2URL: http://www.national.com/pf/LM/LM4665.html; ComponentLink3Description: TLA09AAA Package Page; ComponentLink3URL: http://www.national.com/packaging/folders/tla09aaa.html
footprint TLA09AAA (Micro SMD, 9-Leads, Body 1.52x1.52mm, Pitch 0.5mm, NSC Recommended)
pins: A1 IN+ (in), A2 GAIN SEL (in), A3 VO 1 (out), B1 VDD (power), B2 SD MODE (in), B3 GND (power), C1 IN- (in), C2 SD (in), C3 VO 2 (out)

## LM4665LD
designator U?
Filterless High Efficiency 1W Switching Audio Amplifier; PartNumber: LM4665LD; Manufacturer: National Semiconductor; CompType: Audio IC; PackageTopMarking: ZXYTT*L4665; Published: 4-Dec-2008; DatasheetVersion: Dec-2002; PackageVersion: revB, Jun-2003; PackageReference: LDA10B; Publisher: Altium Limited; PackageDescription: LLP, Plastic, Dual, 3 x 4 x 0.75mm Body, 10 Lead, 0.5mm Pitch; RoHS: Y; PinCount: 10; DigiKeyPartNumber: LM4665LDCT-ND; Code_JEDEC: MO-229-WEGD; ComponentLink1Description: LM4665 Datasheet; ComponentLink1URL: http://www.national.com/ds/LM/LM4665.pdf; ComponentLink2Description: LM4665 Web Page; ComponentLink2URL: http://www.national.com/pf/LM/LM4665.html; ComponentLink3Description: LDA10B Package Page; ComponentLink3URL: http://www.national.com/packaging/folders/lda10b.html
footprint LDA10B (PSON, 10-Leads, Body 3x4mm, Pitch 0.5mm, NSC Recommended)
pins: 1 SD (in), 2 IN- (in), 3 SD MODE (in), 4 IN+ (in), 5 GAIN SEL (in), 6 VO 1 (out), 7 GND (power), 8 GND (power), 9 VDD (power), 10 VO 2 (out), 11 DAP (power)

## LM4666SD
designator U?
Filterless High Efficiency Stereo 1.2W Switching Audio Amplifier; PartNumber: LM4666SD; Manufacturer: National Semiconductor; CompType: Audio IC; PackageTopMarking: ZXYTT*L4666; PowerWise: N; Published: 4-Dec-2008; DatasheetVersion: May-2004; PackageVersion: revA, Jun-2003; PackageReference: SDA14A; Publisher: Altium Limited; PackageDescription: LLP, Plastic, Dual, 4 x 3 x 0.8mm Body, 14 Lead, 0.5mm Pitch, No Pullback; RoHS: Y; PinCount: 14; DigiKeyPartNumber: LM4666SDCT-ND; ComponentLink1Description: LM4666 Datasheet; ComponentLink1URL: http://www.national.com/ds/LM/LM4666.pdf; ComponentLink2Description: LM4666 Web Page; ComponentLink2URL: http://www.national.com/pf/LM/LM4666.html; ComponentLink3Description: SDA14A Package Page; ComponentLink3URL: http://www.national.com/packaging/folders/sda14a.html
footprint SDA14A (SON, 14-Leads, Body 4x3mm, Pitch 0.5mm, NSC Recommended)
pins: 1 VINR- (in), 2 VINR+ (in), 3 GAIN SEL (in), 4 LOUT1 (out), 5 GND (power), 6 VDD (power), 7 LOUT2 (out), 8 VINL- (in), 9 VINL+ (in), 10 ~{SD} (in), 11 ROUT1 (out), 12 GND (power), 13 VDD (power), 14 ROUT2 (out), 15 DAP (power)